# Altium schematic symbol library CN LCD TFT 128X160 1.8in.SchLib: 1 symbol
Pins are listed as number, name and electrical type; pins without a type are passive.

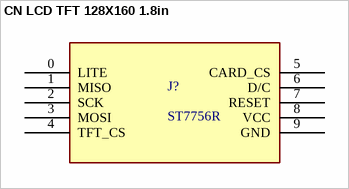
[diagram p0: symbol CN LCD TFT 128X160 1.8in]

## CN LCD TFT 128X160 1.8in
designator J?, comment ST7756R
Graphic LCD Display Module Transmissive Red, Green, Blue (RGB) TFT - Color SPI 1.8" (45.72mm) 128 x 160
footprint CN LCD TFT 128X160 1.8
pins: 0 LITE, 1 MISO, 2 SCK, 3 MOSI, 4 TFT_CS, 5 CARD_CS, 6 D/C, 7 RESET, 8 VCC, 9 GND